# Altium schematic symbol library R 2010 1% YAGEO.SchLib: 1 symbol
Pins are listed as number, name and electrical type; pins without a type are passive.

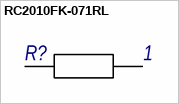
[diagram p0: symbol RC2010FK-071RL]

## RC2010FK-071RL
designator R?, comment value 1  (hidden comment: Резистор чип 2010-0,75 Вт-1 Ом ±1% фирма "YAGEO")
чип 2010-0,75 Вт-1 Ом ±1% фирма "YAGEO"; PartNumber: RC2010FK-071RL; Power: 0,75 Вт; Tol: ± 1%; Manufacture: фирма "YAGEO"; Name: Резистор; TYP: чип 2010; GOST: Резистор чип 2010-0,75 Вт-1 Ом ±1% фирма "YAGEO"
footprint R2010_H06M (Dim 5mm*2.5mm H=0.6mm)
pins: 1, 2
1 alternate drawing of the same symbol